# Altium footprint library DG-306-2.PcbLib: 1 footprints
Each footprint in its own frame and in the unit in brackets; x right, y up, seen from the top. Pads: shape width x height; smd on the part's side, far side on the other; paste and mask are expansions set on the pad; w line width, h text height; cw(c..) or ccw(c..) is an arc to the next point about the centre after c.
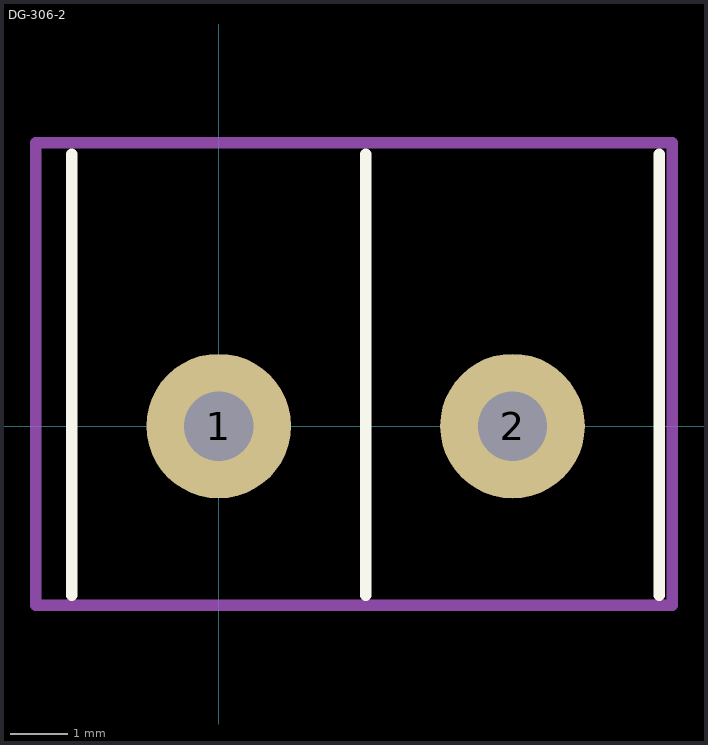
[diagram p0: the footprint, top view; thin cyan lines are the x and y axes]

## DG-306-2 [mm]
pads (2):
  round 2.5 hole 1.2: 1(0,0) 2(5.08,0)
Top Overlay:
  lines w0.2: -2.54,-2.921 -2.54,4.699 ; 2.54,-2.921 2.54,4.699 ; 7.62,-2.921 7.62,4.699
Mechanical 15:
  lines w0.2: -3.16,-3.1 7.84,-3.1 7.84,4.9 -3.16,4.9 -3.16,-3.1
3D body "User Library-Terminal-Screw-3A-2way.step": height 10, standoff -3, extent -3.01,-2.925 7.59,4.675